# EAGLE library part ROHM_LDO (library Rohm-ldo)
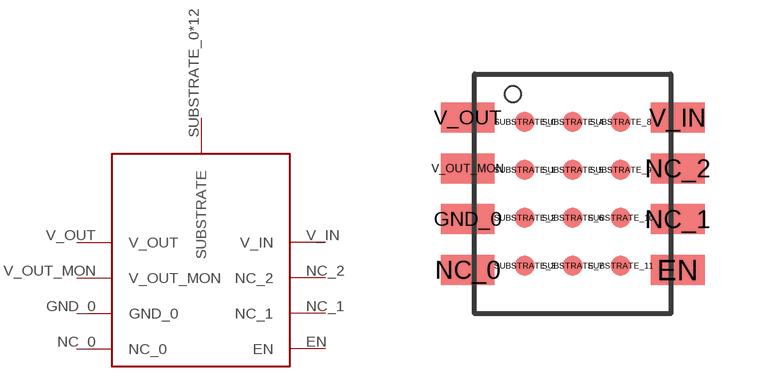
[diagram p0: symbol with the pads of HTSOP-J8; footprint HTSOP-J8]

Designator prefix -

## ROHM_LDO  [HTSOP-J8]
EN  EN
GND_0  GND_0
NC_0  NC_0
NC_1  NC_1
NC_2  NC_2
SUBSTRATE_0  SUBSTRATE
SUBSTRATE_1  SUBSTRATE
SUBSTRATE_2  SUBSTRATE
SUBSTRATE_3  SUBSTRATE
SUBSTRATE_4  SUBSTRATE
SUBSTRATE_5  SUBSTRATE
SUBSTRATE_6  SUBSTRATE
SUBSTRATE_7  SUBSTRATE
SUBSTRATE_8  SUBSTRATE
SUBSTRATE_9  SUBSTRATE
SUBSTRATE_10  SUBSTRATE
SUBSTRATE_11  SUBSTRATE
V_IN  V_IN
V_OUT  V_OUT
V_OUT_MON  V_OUT_MON

## Footprint HTSOP-J8 (pad centres in mm)
SO 8 small outline
smd 1.35 x 0.75: EN 2.625,-1.905; GND_0 -2.625,-0.635; NC_0 -2.625,-1.905; NC_1 2.625,-0.635; NC_2 2.625,0.635; V_IN 2.625,1.905; V_OUT -2.625,1.905; V_OUT_MON -2.625,0.635
smd 0.5 x 0.5: SUBSTRATE_0 -1.2,1.8; SUBSTRATE_1 -1.2,0.6; SUBSTRATE_2 -1.2,-0.6; SUBSTRATE_3 -1.2,-1.8; SUBSTRATE_4 0,1.8; SUBSTRATE_5 0,0.6; SUBSTRATE_6 0,-0.6; SUBSTRATE_7 0,-1.8; SUBSTRATE_8 1.2,1.8; SUBSTRATE_9 1.2,0.6; SUBSTRATE_10 1.2,-0.6; SUBSTRATE_11 1.2,-1.8